# Altium footprint library Mypcb.PcbLib: 144 footprints (part 8 of 9)
Each footprint in its own frame and in the unit in brackets; x right, y up, seen from the top. Pads: shape width x height; smd on the part's side, far side on the other; paste and mask are expansions set on the pad; w line width, h text height; cw(c..) or ccw(c..) is an arc to the next point about the centre after c.
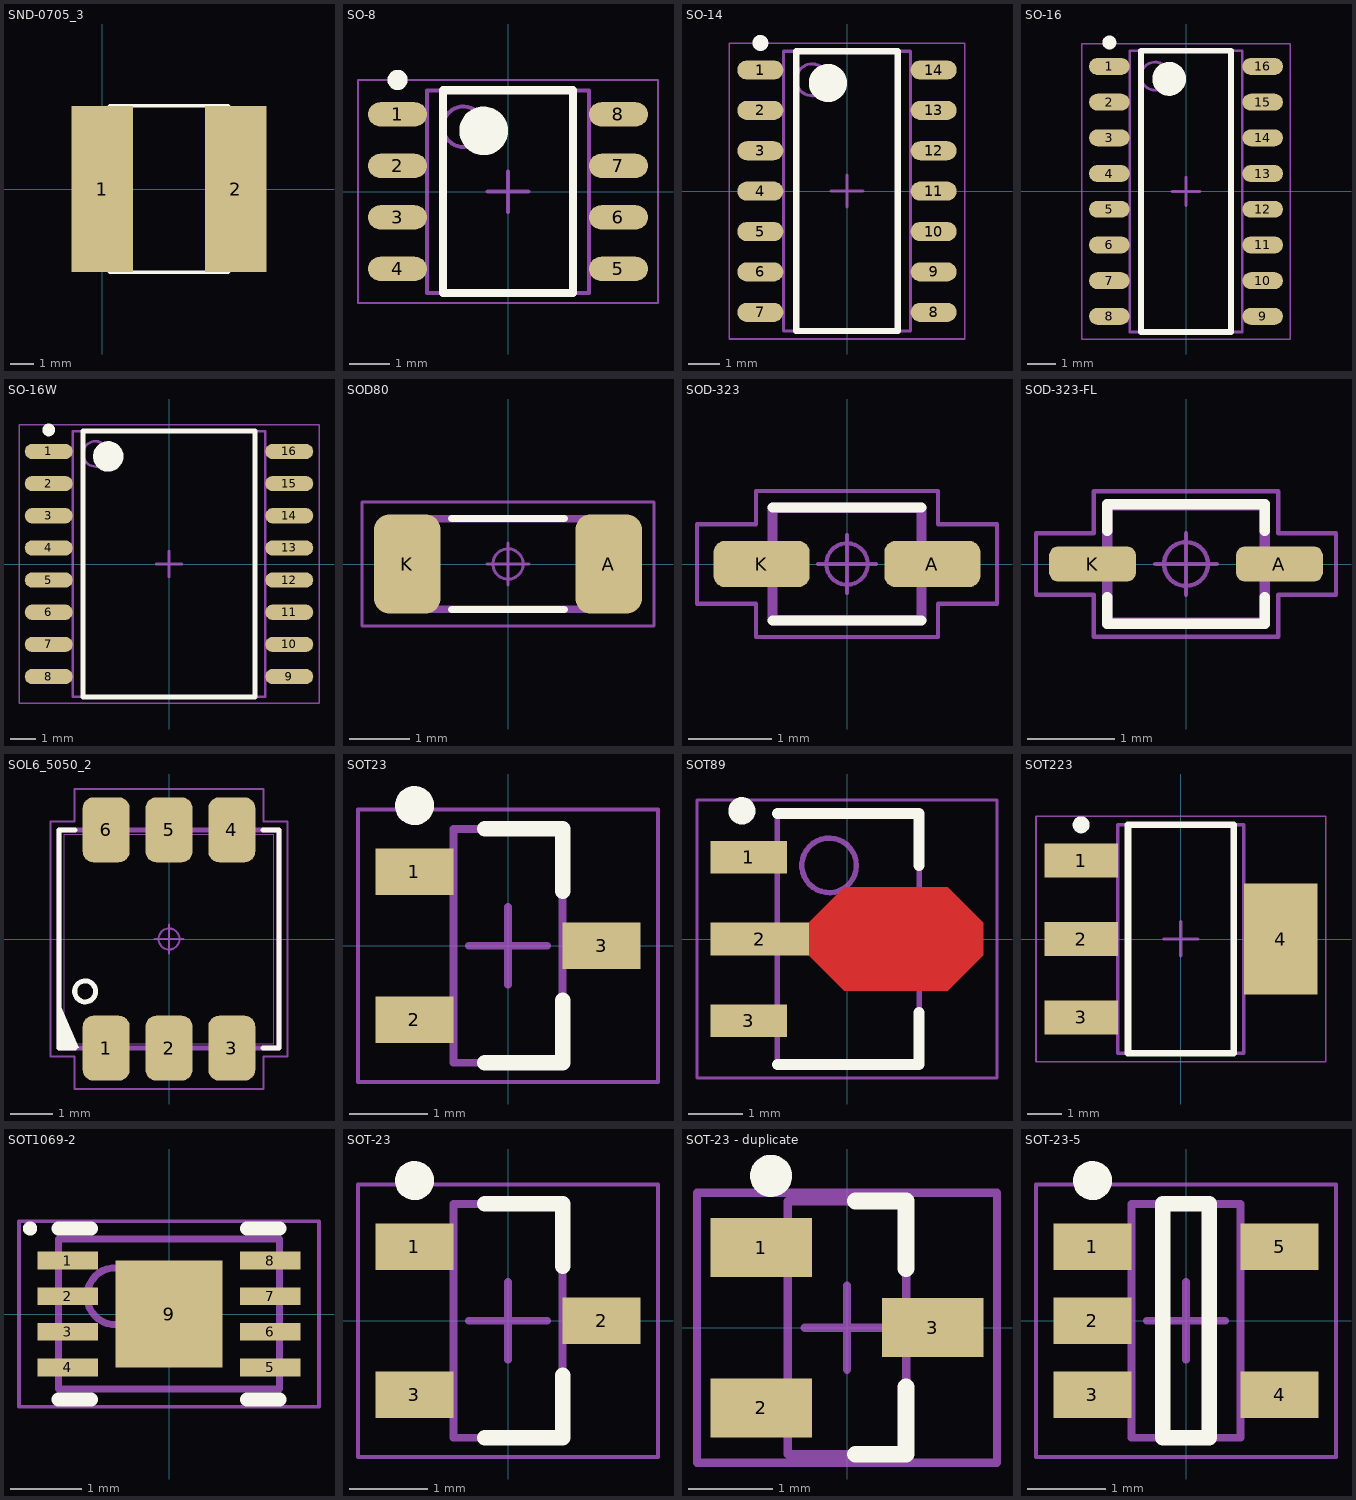
[diagram p7: the footprints below, top view; thin cyan lines are the x and y axes]

## SND-0705_3 [mm]
height 5
pads (2):
  rect 2.6x7 smd: 1(0,0) 2(5.625,0)
Top Overlay:
  lines w0.15: 0.325,-3.5 cw(c3.825,0) 0.325,3.5 5.3,3.5 cw(c1.8,0) 5.3,-3.5 0.325,-3.5
3D body "SMD_Inductor_CD75.step": height 4.98, standoff -0.01, extent -1.1,-3.5 6.7,3.5

## SO-8 [mm] "SOIC, 8-Leads, Body 4,90x3,90mm, Pitch 1,27mm, IPC Medium Density"
height 1.75
pads (8):
  oval 1.45x0.6 smd: 1(-2.725,1.905) 2(-2.725,0.635) 3(-2.725,-0.635) 4(-2.725,-1.905) 5(2.725,-1.905) 6(2.725,-0.635) 7(2.725,0.635) 8(2.725,1.905)
Top Overlay:
  circle w0.6: c-0.6,1.5 r0.3
  circle w0.25: c-2.725,2.755 r0.125
  lines w0.2: -1.6,-2.5 1.6,-2.5 1.6,2.5 -1.6,2.5 -1.6,-2.5
Mechanical 13:
  circle w0.1: c-1.1,1.6 r0.5
  lines w0.1: -2,-2.5 2,-2.5 2,2.5 -2,2.5 -2,-2.5
Mechanical 15:
  lines w0.05: -3.7,-2.75 3.7,-2.75 3.7,2.75 -3.7,2.75 -3.7,-2.75
  lines w0.1: -0.5,0 0.5,0 ; 0,-0.5 0,0.5
3D body "SOIC127P600X175-8N.step": height 1.75, standoff 0, extent -3,-2.5 3,2.5

## SO-14 [mm] "SOIC, 14-Leads, Body 8,65x3,90mm, Pitch 1,27mm, IPC Medium Density"
height 1.75
pads (14):
  oval 1.45x0.6 smd: 1(-2.725,3.81) 2(-2.725,2.54) 3(-2.725,1.27) 4(-2.725,0) 5(-2.725,-1.27) 6(-2.725,-2.54) 7(-2.725,-3.81) 8(2.725,-3.81) 9(2.725,-2.54) 10(2.725,-1.27) 11(2.725,0) 12(2.725,1.27) 13(2.725,2.54) 14(2.725,3.81)
Top Overlay:
  circle w0.6: c-0.6,3.4 r0.3
  circle w0.25: c-2.725,4.66 r0.125
  lines w0.2: -1.6,-4.4 1.6,-4.4 1.6,4.4 -1.6,4.4 -1.6,-4.4
Mechanical 13:
  circle w0.1: c-1.1,3.5 r0.5
  lines w0.1: -2,-4.4 2,-4.4 2,4.4 -2,4.4 -2,-4.4
Mechanical 15:
  lines w0.05: -3.7,-4.65 3.7,-4.65 3.7,4.65 -3.7,4.65 -3.7,-4.65
  lines w0.1: -0.5,0 0.5,0 ; 0,-0.5 0,0.5
3D body: height 1.75, standoff 0.1, extent -2,-4.4 2,4.4

## SO-16 [mm] "SOIC, 16-Leads, Body 9,90x3,90mm, Pitch 1,27mm, IPC Medium Density"
height 1.75
pads (16):
  oval 1.45x0.6 smd: 1(-2.725,4.445) 2(-2.725,3.175) 3(-2.725,1.905) 4(-2.725,0.635) 5(-2.725,-0.635) 6(-2.725,-1.905) 7(-2.725,-3.175) 8(-2.725,-4.445) 9(2.725,-4.445) 10(2.725,-3.175) 11(2.725,-1.905) 12(2.725,-0.635) 13(2.725,0.635) 14(2.725,1.905) 15(2.725,3.175) 16(2.725,4.445)
Top Overlay:
  circle w0.25: c-2.725,5.295 r0.125
  circle w0.6: c-0.6,4 r0.3
  lines w0.2: -1.6,-5 -1.6,5 1.6,5 1.6,-5 -1.6,-5
Mechanical 13:
  circle w0.1: c-1.1,4.1 r0.5
  lines w0.1: -2,-5 -2,5 2,5 2,-5 -2,-5
Mechanical 15:
  lines w0.05: -3.7,-5.25 -3.7,5.25 3.7,5.25 3.7,-5.25 -3.7,-5.25
  lines w0.1: -0.5,0 0.5,0 ; 0,-0.5 0,0.5
3D body: height 1.75, standoff 0.1, extent -2,-5 2,5

## SO-16W [mm] "SOIC, 16-Leads, Body 10,30x7,50mm, Pitch 1,27mm, IPC Medium Density"
height 2.65
pads (16):
  oval 1.9x0.6 smd: 1(-4.75,4.445) 2(-4.75,3.175) 3(-4.75,1.905) 4(-4.75,0.635) 5(-4.75,-0.635) 6(-4.75,-1.905) 7(-4.75,-3.175) 8(-4.75,-4.445) 9(4.75,-4.445) 10(4.75,-3.175) 11(4.75,-1.905) 12(4.75,-0.635) 13(4.75,0.635) 14(4.75,1.905) 15(4.75,3.175) 16(4.75,4.445)
Top Overlay:
  circle w0.6: c-2.4,4.25 r0.3
  circle w0.25: c-4.75,5.295 r0.125
  lines w0.2: -3.4,-5.25 3.4,-5.25 3.4,5.25 -3.4,5.25 -3.4,-5.25
Mechanical 13:
  circle w0.1: c-2.9,4.35 r0.5
  lines w0.1: -3.8,-5.25 3.8,-5.25 3.8,5.25 -3.8,5.25 -3.8,-5.25
Mechanical 15:
  lines w0.05: -5.925,-5.5 5.925,-5.5 5.925,5.5 -5.925,5.5 -5.925,-5.5
  lines w0.1: -0.5,0 0.5,0 ; 0,-0.5 0,0.5
3D body: height 2.65, standoff 0.1, extent -3.8,-5.25 3.8,5.25

## SOD80 [mm] "Diode, Metal Electrode Leadless Face (MELF); 3.45 mm L X 1.40 mm Dia body"
height 1.5
pads (2):
  rrect45% 1.1x1.63 smd: A(1.66,0) K(-1.66,0)
Top Overlay:
  lines w0.12: -0.93,-0.75 0.93,-0.75 ; -0.93,0.75 0.93,0.75
Mechanical 11:
  lines w0.12: -1.8,-0.75 1.8,-0.75 1.8,0.75 -1.8,0.75 -1.8,-0.75
Mechanical 12:
  lines w0.025: -1.725,-0.7 1.725,-0.7 ; -1.725,-0.7 -1.725,0.7 ; -1.725,-0.7 -1.725,0.7 ; -1.725,-0.7 -1.325,-0.7 -1.325,0.7 -1.725,0.7 ; -1.725,0.7 1.725,0.7 ; 1.725,-0.7 1.725,0.7 ; 1.725,-0.7 1.325,-0.7 1.325,0.7 1.725,0.7 ; 1.725,-0.7 1.725,0.7
Mechanical 15:
  circle w0.05: c0,0 r0.25
  lines w0.05: -0.35,0 0.35,0 ; 0,-0.35 0,0.35 ; -2.41,-1.02 2.41,-1.02 2.41,1.02 -2.41,1.02 -2.41,-1.02
3D body "DIOMELF345X140L40.STEP": height 1.4, standoff 0, extent -1.725,-0.7 1.725,0.7

## SOD-323 [mm] "Diode, Small Outline Diode (SOD); 1.70 mm L X 1.25 mm W X 1.10 mm H body"
height 1.1
pads (2):
  rrect50% 1.16x0.56 smd: A(1.03,0) K(-1.03,0)
Top Overlay:
  lines w0.12: -0.9,-0.68 0.9,-0.68 ; -0.9,0.68 0.9,0.68
Mechanical 11:
  lines w0.12: -0.9,-0.68 -0.9,0.68 0.9,0.68 0.9,-0.68 -0.9,-0.68
Mechanical 12:
  lines w0.025: -1.25,-0.162 -0.95,-0.162 -0.95,0.162 -1.25,0.162 -1.25,-0.162 ; -0.85,-0.625 -0.85,0.625 0.85,0.625 0.85,-0.625 -0.85,-0.625 ; 0.95,-0.162 0.95,0.162 1.25,0.162 1.25,-0.162 0.95,-0.162
Mechanical 15:
  circle w0.05: c0,0 r0.25
  lines w0.05: -0.35,0 0.35,0 ; 0,-0.35 0,0.35 ; -1.81,-0.48 -1.81,0.48 -1.1,0.48 -1.1,0.88 1.1,0.88 1.1,0.48 1.81,0.48 1.81,-0.48 1.1,-0.48 1.1,-0.88 -1.1,-0.88 -1.1,-0.48 -1.81,-0.48
3D body "SOD250X125X110L30X32.STEP": height 1.1, standoff 0, extent -1.25,-0.625 1.25,0.625

## SOD-323-FL [mm] "Diode, Small Outline Diode Flat Lead (SODFL); 1.70 mm L X 1.25 mm W X 0.90 mm H body"
height 0.9
pads (2):
  rrect50% 0.99x0.4 smd: A(1.065,0) K(-1.065,0)
Top Overlay:
  lines w0.12: -0.9,-0.38 -0.9,-0.68 0.9,-0.68 0.9,-0.38 ; -0.9,0.38 -0.9,0.68 0.9,0.68 0.9,0.38
Mechanical 11:
  lines w0.12: -0.9,-0.68 -0.9,0.68 0.9,0.68 0.9,-0.68 -0.9,-0.68
Mechanical 12:
  lines w0.025: -1.25,-0.15 -0.75,-0.15 -0.75,0.15 -1.25,0.15 -1.25,-0.15 ; -0.85,-0.625 -0.85,0.625 0.85,0.625 0.85,-0.625 -0.85,-0.625 ; 0.75,-0.15 0.75,0.15 1.25,0.15 1.25,-0.15 0.75,-0.15
Mechanical 15:
  circle w0.05: c0,0 r0.25
  lines w0.05: -0.35,0 0.35,0 ; 0,-0.35 0,0.35 ; -1.71,-0.35 -1.71,0.35 -1.05,0.35 -1.05,0.83 1.05,0.83 1.05,0.35 1.71,0.35 1.71,-0.35 1.05,-0.35 1.05,-0.83 -1.05,-0.83 -1.05,-0.35 -1.71,-0.35
3D body "SODFL250X125X90L50X30.STEP": height 0.9, standoff 0, extent -1.25,-0.625 1.25,0.625

## SOL6_5050_2 [mm]
pads (6):
  rrect45% 1.12x1.55 smd: 1(-1.5,-2.605) 2(0,-2.605) 3(1.5,-2.605) 4(1.5,2.605) 5(0,2.605) 6(-1.5,2.605)
Top Overlay:
  circle w0.12: c-2,-1.25 r0.25
  region: -2.63,-2.6 -2.15,-2.6 -2.63,-1.5
  lines w0.12: -2.24,-2.6 -2.63,-2.6 -2.63,1 -2.63,2.6 -2.24,2.6 ; 2.24,-2.6 2.63,-2.6 2.63,2.6 2.24,2.6
Mechanical 11:
  lines w0.12: -2.63,-2.6 2.63,-2.6 2.63,2.6 -2.63,2.6 -2.63,-2.6
Mechanical 12:
  lines w0.025: -2.5,-2.5 2.5,-2.5 2.5,2.5 -2.5,2.5 -2.5,-2.5 ; -1.95,-2.75 -1.05,-2.75 -1.05,-2.05 -1.95,-2.05 -1.95,-2.75 ; -1.95,2.05 -1.05,2.05 -1.05,2.75 -1.95,2.75 -1.95,2.05 ; -0.45,-2.75 -0.45,-2.05 0.45,-2.05 0.45,-2.75 -0.45,-2.75 ; -0.45,2.05 0.45,2.05 0.45,2.75 -0.45,2.75 -0.45,2.05 ; 1.05,-2.75 1.95,-2.75 1.95,-2.05 1.05,-2.05 1.05,-2.75 ; 1.05,2.05 1.05,2.75 1.95,2.75 1.95,2.05 1.05,2.05
Mechanical 15:
  circle w0.05: c0,0 r0.25
  lines w0.05: -0.35,0 0.35,0 ; 0,-0.35 0,0.35 ; -2.83,-2.8 -2.26,-2.8 -2.26,-3.58 2.26,-3.58 2.26,-2.8 2.83,-2.8 2.83,2.8 2.26,2.8 2.26,3.58 -2.26,3.58 -2.26,2.8 -2.83,2.8 -2.83,-2.8
3D body "SOL6P150_500X550X180L90.STEP": height 1.8, standoff 0, extent -2.498,-2.75 2.498,2.75

## SOT23 [mm] "SOT23, 3-Leads, Body 2,90x2,45mm, Pitch 0,95mm, IPC Medium Density"
height 1.1
pads (3):
  rect 1x0.6 smd: 1(-1.2,0.95) 2(-1.2,-0.95) 3(1.2,0)
Top Overlay:
  circle w0.25: c-1.2,1.8 r0.125
  lines w0.2: -0.3,-1.5 0.7,-1.5 0.7,-0.7 ; -0.3,1.5 0.7,1.5 0.7,0.7
Mechanical 13:
  lines w0.1: -0.7,-1.5 0.7,-1.5 0.7,1.5 -0.7,1.5 -0.7,-1.5
Mechanical 15:
  lines w0.05: -1.925,-1.75 1.925,-1.75 1.925,1.75 -1.925,1.75 -1.925,-1.75
  lines w0.1: -0.5,0 0.5,0 ; 0,-0.5 0,0.5
3D body: height 1.1, standoff 0.05, extent -0.7,-1.5 0.7,1.5

## SOT89 [mm] "SOT89, 3-Leads, Body 4,50x2,45mm, Pitch 1,50mm, Lead Span 4,1mm, IPC Medium Density"
height 1.6
pads (3):
  rect 1.4x0.6 smd: 1(-1.8,1.5) 3(-1.8,-1.5)
  rect 1.8x0.6 smd: 2(-1.6,0)
Top Layer:
  region: -0.7,0.3 -0.05,0.95 1.85,0.95 2.5,0.3 2.5,-0.3 1.85,-0.95 -0.05,-0.95 -0.7,-0.3
Top Overlay:
  circle w0.25: c-1.927,2.35 r0.125
  lines w0.2: -1.278,-2.3 1.322,-2.3 1.322,-1.35 ; -1.278,2.3 1.322,2.3 1.322,1.35
Mechanical 13:
  circle w0.1: c-0.327,1.35 r0.5
  lines w0.1: -1.278,-2.3 -1.278,2.3 1.322,2.3 1.322,-2.3 -1.278,-2.3
Mechanical 15:
  lines w0.05: -2.75,-2.55 -2.75,2.55 2.75,2.55 2.75,-2.55 -2.75,-2.55
  lines w0.1: -0.477,0 0.523,0 ; 0.022,-0.5 0.022,0.5
3D body: height 1.6, standoff 0, extent -1.278,-2.3 1.322,2.3

## SOT223 [mm] "SOT223, 4-Leads, Body 6,50x7,00mm (avg), Pitch 2,30mm, IPC Medium Density"
height 1.8
pads (4):
  rect 2.15x1 smd: 1(-2.925,2.3) 2(-2.925,0) 3(-2.925,-2.3)
  rect 2.15x3.25 smd: 4(2.925,0)
Top Overlay:
  circle w0.25: c-2.925,3.35 r0.125
  lines w0.2: -1.55,-3.35 -1.55,3.35 1.55,3.35 1.55,-3.35 -1.55,-3.35
Mechanical 13:
  lines w0.1: -1.85,-3.35 -1.85,3.35 1.85,3.35 1.85,-3.35 -1.85,-3.35
Mechanical 15:
  lines w0.05: -4.25,-3.6 -4.25,3.6 4.25,3.6 4.25,-3.6 -4.25,-3.6
  lines w0.1: -0.5,0 0.5,0 ; 0,-0.5 0,0.5
3D body: height 1.8, standoff 0.02, extent -1.85,-3.35 1.85,3.35

## SOT1069-2 [mm] "8-lead DFN 2*3mm"
height 0.8
pads (9):
  rect 0.85x0.25 smd: 1(-1.42,0.75) 2(-1.42,0.25) 3(-1.42,-0.25) 4(-1.42,-0.75) 5(1.42,-0.75) 6(1.42,-0.25) 7(1.42,0.25) 8(1.42,0.75)
  rect 1.5x1.5 smd: 9(0,0)
Top Overlay:
  circle w0.1: c-1.95,1.2 r0.05
  lines w0.2: -1.55,-1.2 -1.095,-1.2 ; -1.55,1.2 -1.095,1.2 ; 1.095,-1.2 1.55,-1.2 ; 1.095,1.2 1.55,1.2
Mechanical 13:
  circle w0.1: c-0.75,0.25 r0.4
  lines w0.1: -1.55,-1.05 -1.55,1.05 1.55,1.05 1.55,-1.05 -1.55,-1.05
Mechanical 15:
  lines w0.05: -2.105,-1.3 -2.105,1.3 2.105,1.3 2.105,-1.3 -2.105,-1.3
  lines w0.1: -0.5,0 0.5,0 ; 0,-0.5 0,0.5
3D body: height 0.8, standoff 0, extent -1.55,-1.05 1.55,1.05

## SOT-23 [mm]
pads (3):
  rect 1x0.6 smd: 1(-1.2,0.95) 2(1.2,0) 3(-1.2,-0.95)
Top Overlay:
  circle w0.25: c-1.2,1.8 r0.125
  lines w0.2: -0.3,-1.5 0.7,-1.5 0.7,-0.7 ; -0.3,1.5 0.7,1.5 0.7,0.7
Mechanical 13:
  lines w0.1: -0.7,-1.5 0.7,-1.5 0.7,1.5 -0.7,1.5 -0.7,-1.5
Mechanical 15:
  lines w0.05: -1.925,-1.75 1.925,-1.75 1.925,1.75 -1.925,1.75 -1.925,-1.75
  lines w0.1: -0.5,0 0.5,0 ; 0,-0.5 0,0.5
3D body: height 1.1, standoff 0.05, extent -0.7,-1.5 0.7,1.5

## SOT-23 - duplicate [mm] "SOT23, 3-Leads, Body 2.9x1.3mm, Pitch 0.95mm, Lead Span 2.5mm, IPC High Density"
height 1.1
pads (3):
  rect 1.2x0.7 smd: 1(-1.016,0.95) 2(-1.016,-0.95) 3(1.016,0)
Top Overlay:
  circle w0.25: c-0.9,1.8 r0.125
  lines w0.2: 0.1,-1.5 0.7,-1.5 0.7,-0.7 ; 0.1,1.5 0.7,1.5 0.7,0.7
Mechanical 13:
  lines w0.1: -0.7,-1.5 -0.7,1.5 0.7,1.5 0.7,-1.5 -0.7,-1.5
Mechanical 15:
  lines w0.1: -0.5,0 0.5,0 ; 0,-0.5 0,0.5 ; -1.778,-1.6 1.778,-1.6 1.778,1.6 -1.778,1.6 -1.778,-1.6
3D body: height 1.1, standoff 0, extent -0.7,-1.5 0.7,1.5

## SOT-23-5 [mm] "SOT23, 5-Leads, Body 2,90x2,45mm, Pitch 0,95mm, IPC Medium Density"
height 1.1
pads (5):
  rect 1x0.6 smd: 1(-1.2,0.95) 2(-1.2,0) 3(-1.2,-0.95) 4(1.2,-0.95) 5(1.2,0.95)
Top Overlay:
  circle w0.25: c-1.2,1.8 r0.125
  lines w0.2: -0.3,-1.5 -0.3,1.5 0.3,1.5 0.3,-1.5 -0.3,-1.5
Mechanical 13:
  lines w0.1: -0.7,-1.5 0.7,-1.5 0.7,1.5 -0.7,1.5 -0.7,-1.5
Mechanical 15:
  lines w0.05: -1.925,-1.75 1.925,-1.75 1.925,1.75 -1.925,1.75 -1.925,-1.75
  lines w0.1: -0.5,0 0.5,0 ; 0,-0.5 0,0.5
3D body: height 1.1, standoff 0.05, extent -0.7,-1.5 0.7,1.5